# Altium footprint library pcb_checked.PcbLib: 89 footprints (part 6 of 6)
Each footprint in its own frame and in the unit in brackets; x right, y up, seen from the top. Pads: shape width x height; smd on the part's side, far side on the other; paste and mask are expansions set on the pad; w line width, h text height; cw(c..) or ccw(c..) is an arc to the next point about the centre after c.
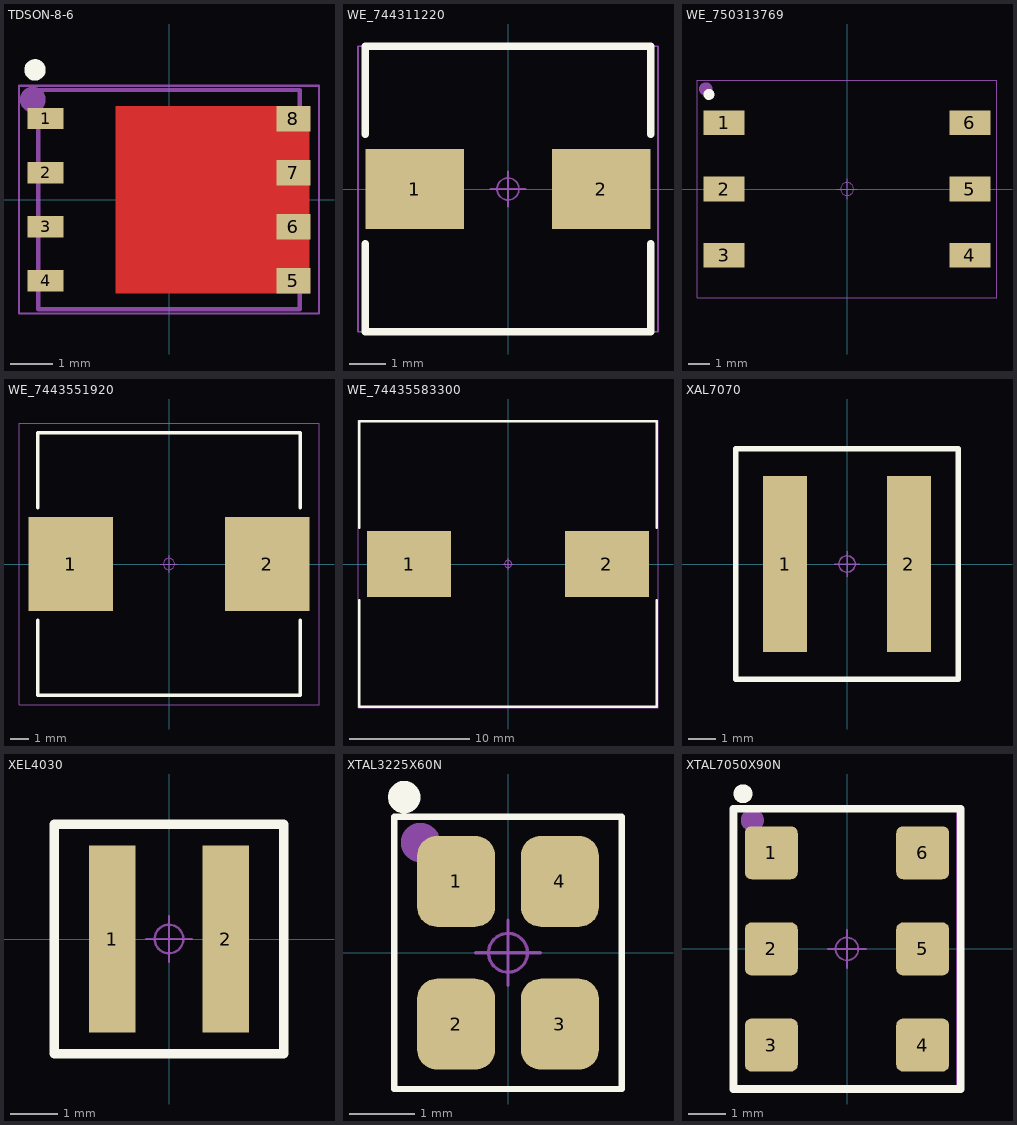
[diagram p5: the footprints below, top view; thin cyan lines are the x and y axes]

## TDSON-8-6 [mm] "TDSON, 8-Leads, Body 6.15x5.15mm, Pitch 1.27mm"
height 1
pads (8):
  rect 0.85x0.5 smd paste-0.05: 1(-2.9,1.905) 2(-2.9,0.635) 3(-2.9,-0.635) 4(-2.9,-1.905)
  rect 0.8x0.6 smd paste-0.05: 5(2.925,-1.905) 6(2.925,-0.635) 7(2.925,0.635) 8(2.925,1.905)
Top Layer:
  region: 3.3,-2.2 3.3,2.2 2.55,2.2 2.55,-2.2
  region: 2.55,2.2 -1.25,2.2 -1.25,-2.2 2.55,-2.2
Top Overlay:
  circle w0.25: c-3.15,3.05 r0.125
Top Paste:
  rectangle: 0.75,0.1 2.25,1.6
  rectangle: 0.75,-1.6 2.25,-0.1
  rectangle: -0.95,-1.6 0.55,-0.1
  rectangle: -0.95,0.1 0.55,1.6
Mechanical 13:
  lines w0.1: -3.075,-2.575 -3.075,2.575 3.075,2.575 3.075,-2.575 -3.075,-2.575
Mechanical 15:
  circle w0.05: c0,0 r0.3
  circle w0.406: c-3.2,2.35 r0.1
  lines w0.05: -0.5,0 0.5,0 ; 0,-0.5 0,0.5 ; -3.525,-2.675 -3.525,2.675 3.525,2.675 3.525,-2.675 -3.525,-2.675
  text ".Designator" at -3.3,-2.45 h1
3D body: height 1, standoff 0, extent -3.075,-2.575 3.075,2.575

## WE_744311220 [mm]
height 4
pads (2):
  rect 2.7x2.2 smd: 1(-2.55,0) 2(2.55,0)
Top Overlay:
  lines w0.2: -3.9,-1.5 -3.9,-3.9 3.9,-3.9 3.9,-1.5 ; -3.9,1.5 -3.9,3.9 3.9,3.9 3.9,1.5
Mechanical 15:
  circle w0.05: c0,0 r0.3
  lines w0.05: -0.475,0 0.475,0 ; 0,-0.475 0,0.475 ; -4.1,-3.9 -4.1,3.9 4.1,3.9 4.1,-3.9 -4.1,-3.9
  text ".Designator" at -3.9,-3.6 h1
3D body: height 4, standoff 0, extent -3.7,-3.7 3.7,3.7

## WE_750313769 [mm]
height 7.62
pads (6):
  rect 1.9x1.14 smd: 1(-5.655,3.05) 2(-5.655,0) 3(-5.655,-3.05) 4(5.655,-3.05) 5(5.655,0) 6(5.655,3.05)
Top Overlay:
  circle w0.25: c-6.35,4.35 r0.125
Mechanical 15:
  circle w0.406: c-6.5,4.6 r0.1
  circle w0.05: c0,0 r0.3
  lines w0.05: -0.475,0 0.475,0 ; 0,-0.475 0,0.475 ; -6.9,-5 -6.9,5 6.9,5 6.9,-5 -6.9,-5
  text ".Designator" at -6.6,-4.6 h1
3D body: height 7.62, standoff 0, extent -4,-4.6 4,4.6

## WE_7443551920 [mm]
height 6.5
pads (2):
  rect 4.5x5 smd: 1(-5.25,0) 2(5.25,0)
Top Overlay:
  lines w0.2: -7,-3 -7,-7 7,-7 7,-3 ; -7,3 -7,7 7,7 7,3
Mechanical 15:
  circle w0.05: c0,0 r0.3
  lines w0.05: -0.475,0 0.475,0 ; 0,-0.475 0,0.475 ; -8,-7.5 8,-7.5 8,7.5 -8,7.5 -8,-7.5
  text ".Designator" at -6.8,-6.7 h1
3D body: height 6.5, standoff 0, extent -6.7,-6.7 6.7,6.7

## WE_74435583300 [mm]
height 12.4
pads (2):
  rect 7x5.5 smd: 1(-8.25,0) 2(8.25,0)
Top Overlay:
  lines w0.2: -12.4,-3 -12.4,-11.9 12.4,-11.9 12.4,-3 ; -12.4,3 -12.4,11.9 12.4,11.9 12.4,3
Mechanical 15:
  circle w0.05: c0,0 r0.3
  lines w0.05: -0.475,0 0.475,0 ; 0,-0.475 0,0.475 ; -12.5,-12 12.5,-12 12.5,12 -12.5,12 -12.5,-12
  text ".Designator" at -12.2,-11.7 h1
3D body: height 12.4, standoff 0, extent -11.75,-11.5 11.75,11.5

## XAL7070 [mm]
height 7.13
pads (2):
  rect 1.63x6.5 smd: 1(-2.285,0) 2(2.285,0)
Top Overlay:
  lines w0.2: -4.1,-4.25 -4.1,4.25 4.1,4.25 4.1,-4.25 -4.1,-4.25
Mechanical 15:
  circle w0.05: c0,0 r0.3
  lines w0.05: -0.475,0 0.475,0 ; 0,-0.475 0,0.475 ; -4.1,-4.25 4.1,-4.25 4.1,4.25 -4.1,4.25 -4.1,-4.25
  text ".Designator" at -3.8,-3.9 h1
3D body: height 7.13, standoff 0, extent -3.85,-4 3.85,4

## XEL4030 [mm]
height 3.1
pads (2):
  rect 0.98x3.9 smd: 1(-1.185,0) 2(1.185,0)
Top Overlay:
  lines w0.2: -2.4,-2.4 -2.4,2.4 2.4,2.4 2.4,-2.4 -2.4,-2.4
Mechanical 15:
  circle w0.05: c0,0 r0.3
  lines w0.05: -0.475,0 0.475,0 ; 0,-0.475 0,0.475 ; -2.4,-2.4 2.4,-2.4 2.4,2.4 -2.4,2.4 -2.4,-2.4
  text ".Designator" at -2.25,-2.2 h1
3D body: height 3.1, standoff 0, extent -2.15,-2.15 2.15,2.15

## XTAL3225X60N [mm] "Crystal, 3.2x2.5mm, H=0.6mm"
height 0.6
pads (4):
  rrect50% 1.2x1.4 smd: 1(-0.8,1.1) 2(-0.8,-1.1) 3(0.8,-1.1) 4(0.8,1.1)
Top Overlay:
  circle w0.25: c-1.6,2.4 r0.125
  lines w0.1: -1.75,-2.1 -1.75,2.1 1.75,2.1 1.75,-2.1 -1.7,-2.1 -1.75,-2.1
Mechanical 15:
  circle w0.05: c0,0 r0.3
  circle w0.406: c-1.35,1.7 r0.1
  lines w0.05: -0.5,0 0.5,0 ; 0,-0.5 0,0.5 ; -1.75,-2.1 -1.75,2.1 1.75,2.1 1.75,-2.1 -1.75,-2.1
  text ".Designator" at -1.6,-1.9 h1
3D body: height 0.6, standoff 0, extent -1.3,-1.6 1.3,1.6

## XTAL7050X90N [mm] "Crystal, 7.0x5.0mm, H=0.9mm"
height 0.9
pads (6):
  rrect25% 1.4x1.4 smd: 1(-2,2.54) 2(-2,0) 3(-2,-2.54) 4(2,-2.54) 5(2,0) 6(2,2.54)
Top Overlay:
  circle w0.25: c-2.75,4.1 r0.125
  lines w0.2: -3,-3.7 3,-3.7 3,3.7 -3,3.7 -3,-3.7
Mechanical 15:
  circle w0.05: c0,0 r0.3
  circle w0.406: c-2.5,3.4 r0.1
  lines w0.05: -0.5,0 0.5,0 ; 0,-0.5 0,0.5 ; -2.9,-3.7 2.9,-3.7 2.9,3.7 -2.9,3.7 -2.9,-3.7
  text ".Designator" at -2.7,-3.3 h1
3D body: height 0.9, standoff 0, extent -2.5,-3.5 2.5,3.5